# Altium footprint library SmolCreeLed.PcbLib: 1 footprints
Each footprint in its own frame and in the unit in brackets; x right, y up, seen from the top. Pads: shape width x height; smd on the part's side, far side on the other; paste and mask are expansions set on the pad; w line width, h text height; cw(c..) or ccw(c..) is an arc to the next point about the centre after c.
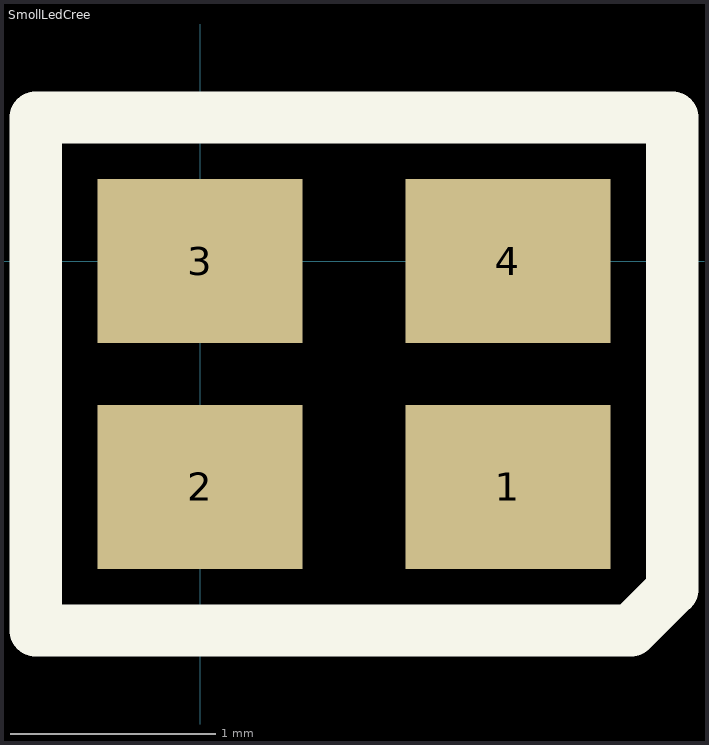
[diagram p0: the footprint, top view; thin cyan lines are the x and y axes]

## SmollLedCree [mm] "CLMVC-FKA"
pads (4):
  rect 1x0.8 smd: 1(1.5,-1.1) 2(0,-1.1) 3(0,0) 4(1.5,0)
Top Overlay:
  lines w0.254: -0.8,-1.8 2.1,-1.8 2.3,-1.6 2.3,0.7 0.875,0.7 -0.8,0.7 -0.8,-1.8
3D body "CLMVC-FKA-CL1D1L71BB7C3C3--3DModel-STEP-56544.STEP": height 1, standoff 0, extent -0.25,-1.55 1.75,0.45